# EAGLE library part PICOBLADE_7_ (library CONNECTORs)
1.25mm pitch 1A connector. 7 way.
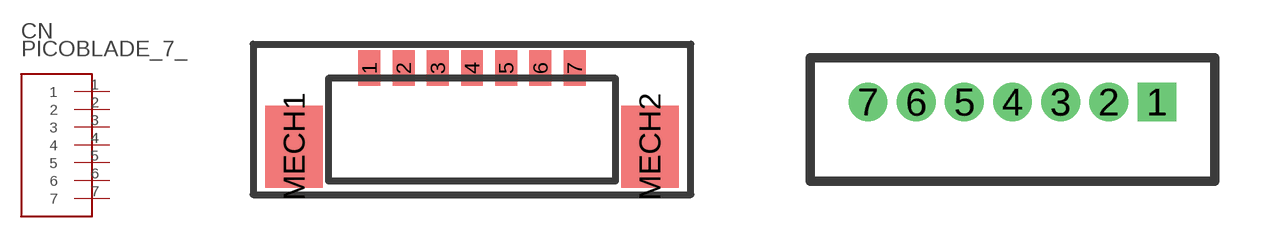
[diagram p12: symbol with the pads of MOLEX_0533980771; footprints MOLEX_0533980771, MOLEX_530470710]

Designator prefix CN

## PICOBLADE_7_SM_V (FARNELL: 9786368)  [MOLEX_0533980771]
1  1
2  2
3  3
4  4
5  5
6  6
7  7

## PICOBLADE_7_TH_V (FARNELL: 9732870)  [MOLEX_530470710]
Pads as for MOLEX_0533980771

## Footprint MOLEX_0533980771 (pad centres in mm)
smd 0.8 x 1.3: 1 -3.75,2.125; 2 -2.5,2.125; 3 -1.25,2.125; 4 0,2.125; 5 1.25,2.125; 6 2.5,2.125; 7 3.75,2.125
smd 2.1 x 3: MECH1 -6.5,-0.75; MECH2 6.5,-0.75

## Footprint MOLEX_530470710 (pad centres in mm)
drill 0.5 square: 1 3.75,0
drill 0.5: 2 2.5,0; 3 1.25,0; 4 0,0; 5 -1.25,0; 6 -2.5,0; 7 -3.75,0